# EAGLE library part PAM8403MOD (library dl9sec_public)
PAM8403 module 2x3W@4R
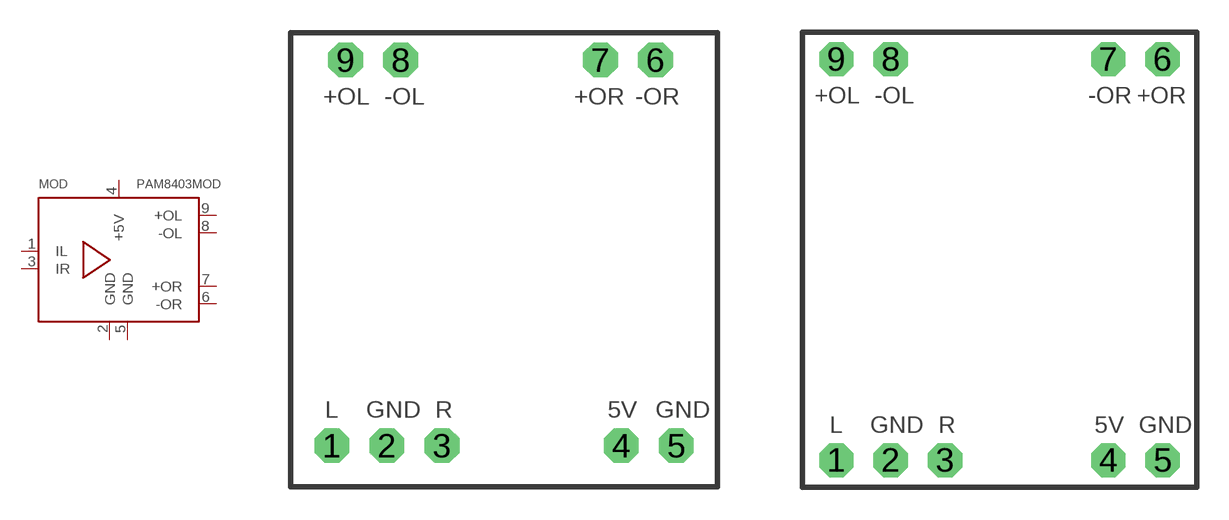
[diagram p9: symbol with the pads of PAM8403MOD1; footprints PAM8403MOD1, PAM8403MOD2]

Designator prefix MOD

## PAM8403MOD-F1  [PAM8403MOD1]
1  IL  pas
2  GND  pwr
3  IR  pas
4  +5V  pwr
5  GND  pwr
6  -OR  pas
7  +OR  pas
8  -OL  pas
9  +OL  pas

## PAM8403MOD-F2  [PAM8403MOD2]
Pads as for PAM8403MOD1

## Footprint PAM8403MOD1 (pad centres in mm)
PAM8403 module footprint 1
drill 0.8 pad 1.6 octagon: 1 0,0; 2 2.54,0; 3 5.08,0; 4 13.335,0; 5 15.875,0; 6 14.922,17.78; 7 12.383,17.78; 8 3.175,17.78; 9 0.635,17.78

## Footprint PAM8403MOD2 (pad centres in mm)
PAM8403 module footprint 2
drill 0.8 pad 1.6 octagon: 1 0,0; 2 2.54,0; 3 5.08,0; 4 12.7,0; 5 15.24,0; 6 15.24,18.733; 7 12.7,18.733; 8 2.54,18.733; 9 0,18.733